# Altium schematic symbol library pot-xicor.SCHLIB: 2 symbols
Pins are listed as number, name and electrical type; pins without a type are passive.

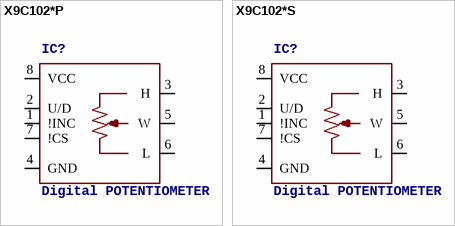
[diagram p0: symbols X9C102*P to X9C102*S]

## X9C102*P
designator IC?, comment Digital POTENTIOMETER
MPN: X9C102P; MF: INTERSIL; OC_FARNELL: 1216104; OC_NEWARK: 51J6928
footprint DIL08
pins: 1 !INC, 2 U/D, 3 H, 4 GND (power), 5 W, 6 L, 7 !CS, 8 VCC (power)

## X9C102*S
designator IC?, comment Digital POTENTIOMETER
MPN: X9C102SIZ; MF: INTERSIL; OC_FARNELL: 1562072; OC_NEWARK: 79K8947
footprint SOIC08
pins: 1 !INC, 2 U/D, 3 H, 4 GND (power), 5 W, 6 L, 7 !CS, 8 VCC (power)